# Altium schematic symbol library GEN-PAD.Schlib: 1 symbol
Pins are listed as number, name and electrical type; pins without a type are passive.

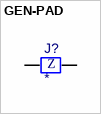
[diagram p0: symbol GEN-PAD]

## GEN-PAD
designator J?
Generic Component
pins: 1, 2
text: Z